# Altium schematic symbol library SPST_Pushbutton.SchLib: 1 symbol
Pins are listed as number, name and electrical type; pins without a type are passive.

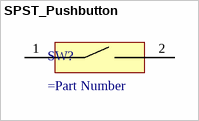
[diagram p0: symbol SPST_Pushbutton]

## SPST_Pushbutton
designator SW?
=Description
pins: 1 (power), 2 (power)